# EAGLE library part 2X3_PROG (library Ilya_Teach)
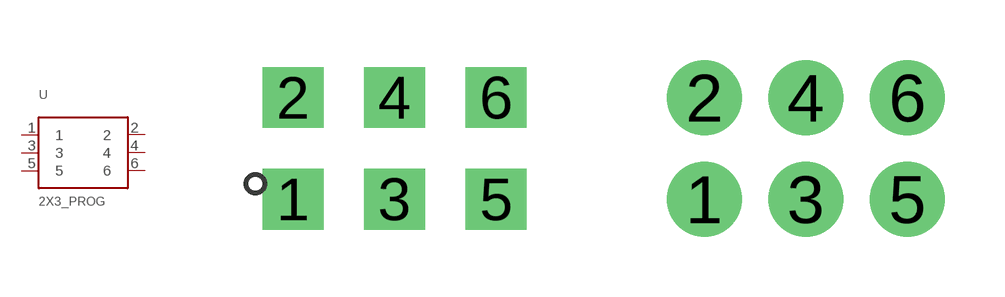
[diagram p1: symbol with the pads of 2X3-SMD_PROG; footprints 2X3-SMD_PROG, 2X3_0.1IN]

Designator prefix -

## 2X3_PROGPOGO  [2X3-SMD_PROG]
1  1
2  2
3  3
4  4
5  5
6  6

## 2X3_PROG  [2X3_0.1IN]
Pads as for 2X3-SMD_PROG

## Footprint 2X3-SMD_PROG (pad centres in mm)
drill 1.016 pad 1.27 square: 1 -1.27,-1.27; 2 -1.27,1.27; 3 1.27,-1.27; 4 1.27,1.27; 5 3.81,-1.27; 6 3.81,1.27

## Footprint 2X3_0.1IN (pad centres in mm)
drill 1.016 pad 1.88: 1 -2.54,-1.27; 2 -2.54,1.27; 3 0,-1.27; 4 0,1.27; 5 2.54,-1.27; 6 2.54,1.27